# Altium schematic symbol library YIS160.SchLib: 1 symbol
Pins are listed as number, name and electrical type; pins without a type are passive.

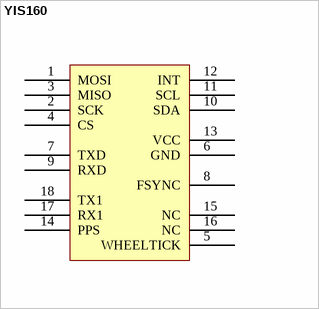
[diagram p0: symbol YIS160]

## YIS160
designator *
footprint YIS160
pins: 1 MOSI, 2 SCK, 3 MISO, 4 CS, 5 WHEELTICK, 6 GND, 7 TXD, 8 FSYNC, 9 RXD, 10 SDA, 11 SCL, 12 INT, 13 VCC, 14 PPS, 15 NC, 16 NC, 17 RX1, 18 TX1